# Altium footprint library VLC_Components_Lib.PcbLib: 10 footprints
Each footprint in its own frame and in the unit in brackets; x right, y up, seen from the top. Pads: shape width x height; smd on the part's side, far side on the other; paste and mask are expansions set on the pad; w line width, h text height; cw(c..) or ccw(c..) is an arc to the next point about the centre after c.
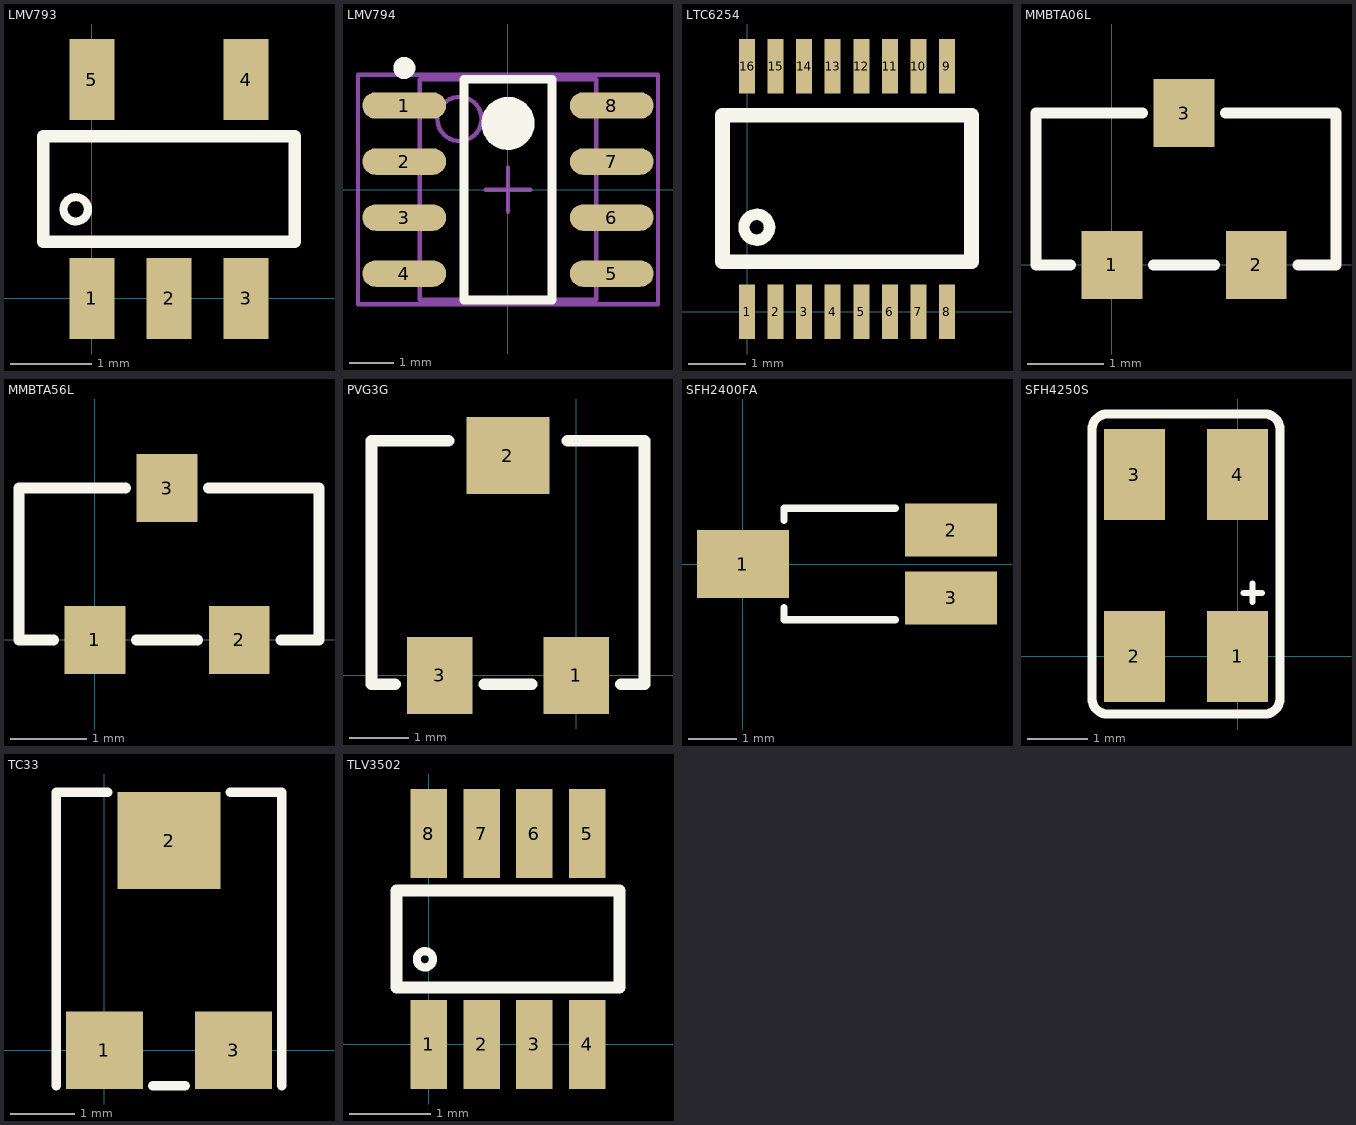
[diagram p0: the footprints below, top view; thin cyan lines are the x and y axes]

## LMV793 [mm] "88 MHz, Low Noise, 1.8V CMOS Input, Decompensated Operational Amplifiers"
pads (5):
  rect 0.55x1 smd mask+0.07: 1(0,0) 2(0.95,0) 3(1.9,0) 4(1.9,2.7) 5(0,2.7)
Top Overlay:
  circle w0.1: c-0.2,1.1 r0.15
  lines w0.15: -0.6,0.7 2.5,0.7 2.5,2 -0.6,2 -0.6,0.7
3D body "DBV0005A.stp": height 1.2, standoff 0, extent -0.5,-0.05 2.4,2.75

## LMV794 [mm] "IC OPAMP GP 88MHZ RRO 8SOIC"
pads (8):
  oval 1.9x0.6 smd: 1(-2.35,1.905) 2(-2.35,0.635) 3(-2.35,-0.635) 4(-2.35,-1.905) 5(2.35,-1.905) 6(2.35,-0.635) 7(2.35,0.635) 8(2.35,1.905)
Top Overlay:
  circle w0.6: c0,1.5 r0.3
  circle w0.25: c-2.35,2.755 r0.125
  lines w0.2: -1,-2.5 1,-2.5 1,2.5 -1,2.5 -1,-2.5
Mechanical 13:
  circle w0.1: c-1.1,1.6 r0.5
  lines w0.1: -2,-2.5 2,-2.5 2,2.5 -2,2.5 -2,-2.5
Mechanical 15:
  lines w0.1: -0.5,0 0.5,0 ; 0,-0.5 0,0.5 ; -3.4,-2.6 3.4,-2.6 3.4,2.6 -3.4,2.6 -3.4,-2.6
3D body: height 1.75, standoff 0, extent -2,-2.5 2,2.5

## LTC6254 [mm] "720MHz, 3.5mA Power Efficient Rail-to-Rail I/O Op Amps"
pads (16):
  rect 0.279x0.953 smd mask+0.05: 1(0,0) 2(0.5,0) 3(1,0) 4(1.5,0) 5(2,0) 6(2.5,0) 7(3,0) 8(3.5,0) 9(3.5,4.3) 10(3,4.3) 11(2.5,4.3) 12(2,4.3) 13(1.5,4.3) 14(1,4.3) 15(0.5,4.3) 16(0,4.3)
Top Overlay:
  circle w0.2: c0.17,1.48 r0.225
  lines w0.254: -0.43,0.88 3.93,0.88 3.93,3.44 -0.43,3.44 -0.43,0.88

## MMBTA06L [mm] "Bipolar (BJT) Transistor NPN 80V 500mA 100MHz 225mW Surface Mount SOT-23-3 (TO-236)"
pads (3):
  rect 0.8x0.9 smd mask+0.05: 1(0,0) 2(1.9,0) 3(0.95,2)
Top Overlay:
  lines w0.15: -0.55,0 -1,0 -1,2 0.4,2 ; 0.55,0 1.35,0 ; 1.5,2 2.95,2 2.95,0 2.45,0

## MMBTA56L [mm] "Bipolar (BJT) Transistor PNP 80V 500mA 50MHz 225mW Surface Mount SOT-23-3 (TO-236)"
pads (3):
  rect 0.8x0.9 smd mask+0.05: 1(0,0) 2(1.9,0) 3(0.95,2)
Top Overlay:
  lines w0.15: -0.55,0 -1,0 -1,2 0.4,2 ; 0.55,0 1.35,0 ; 1.5,2 2.95,2 2.95,0 2.45,0

## PVG3G [mm] "TRIMMER 2M OHM 0.25W SMD"
pads (3):
  rect 1.1x1.3 smd mask+0.05: 1(0,0) 3(-2.3,0)
  rect 1.4x1.3 smd mask+0.05: 2(-1.15,3.7)
Top Overlay:
  lines w0.2: -3.05,-0.15 -3.45,-0.15 -3.45,3.95 -2.15,3.95 ; -1.55,-0.15 -0.75,-0.15 ; -0.15,3.95 1.15,3.95 1.15,-0.15 0.75,-0.15

## SFH2400FA [mm] "Photodiode 900nm 5ns 120° 3-SMD, Gull Wing"
pads (3):
  rect 1.9x1.4 smd mask+0.08: 1(0,0)
  rect 1.9x1.1 smd mask+0.07: 2(4.3,0.7) 3(4.3,-0.7)
Top Overlay:
  lines w0.15: 0.85,-0.9 0.85,-1.15 3.15,-1.15 ; 0.85,0.9 0.85,1.15 3.15,1.15

## SFH4250S [mm] "Infrared (IR) Emitter 860nm 3.1V 100mA 30mW/sr @ 100mA 120° 4-PLCC"
pads (4):
  rect 1x1.5 smd mask+0.05: 1(0,0) 2(-1.7,0) 3(-1.7,3) 4(0,3)
Top Overlay:
  lines w0.1: 0.1,1.05 0.4,1.05 ; 0.25,0.9 0.25,1.2
  lines w0.15: -2.4,-0.7 ccw(c-2.15,-0.7) -2.15,-0.95 0.45,-0.95 ccw(c0.45,-0.7) 0.7,-0.7 0.7,3.75 ccw(c0.45,3.75) 0.45,4 -2.15,4 ccw(c-2.15,3.75) -2.4,3.75 -2.4,-0.7

## TC33 [mm] "TRIMMER 100 OHM TO 1 MOMH 0.1W SMD"
pads (3):
  rect 1.2x1.2 smd mask+0.05: 1(0,0) 3(2,0)
  rect 1.6x1.5 smd mask+0.05: 2(1,3.25)
Top Overlay:
  lines w0.15: -0.75,-0.55 -0.75,4 0.05,4 ; 0.75,-0.55 1.25,-0.55 ; 1.95,4 2.75,4 2.75,-0.55

## TLV3502 [mm] "4.5-ns, Rail-to-Rail, High-Speed Comparator in Microsize Packages"
pads (8):
  rect 0.45x1.1 smd mask+0.05: 1(0,0) 2(0.65,0) 3(1.3,0) 4(1.95,0) 5(1.95,2.6) 6(1.3,2.6) 7(0.65,2.6) 8(0,2.6)
Top Overlay:
  circle w0.1: c-0.05,1.05 r0.1
  lines w0.15: -0.4,0.7 2.35,0.7 2.35,1.9 -0.4,1.9 -0.4,0.7